# Altium schematic symbol library Schlib_Discrete.SchLib: 28 symbols
Pins are listed as number, name and electrical type; pins without a type are passive.

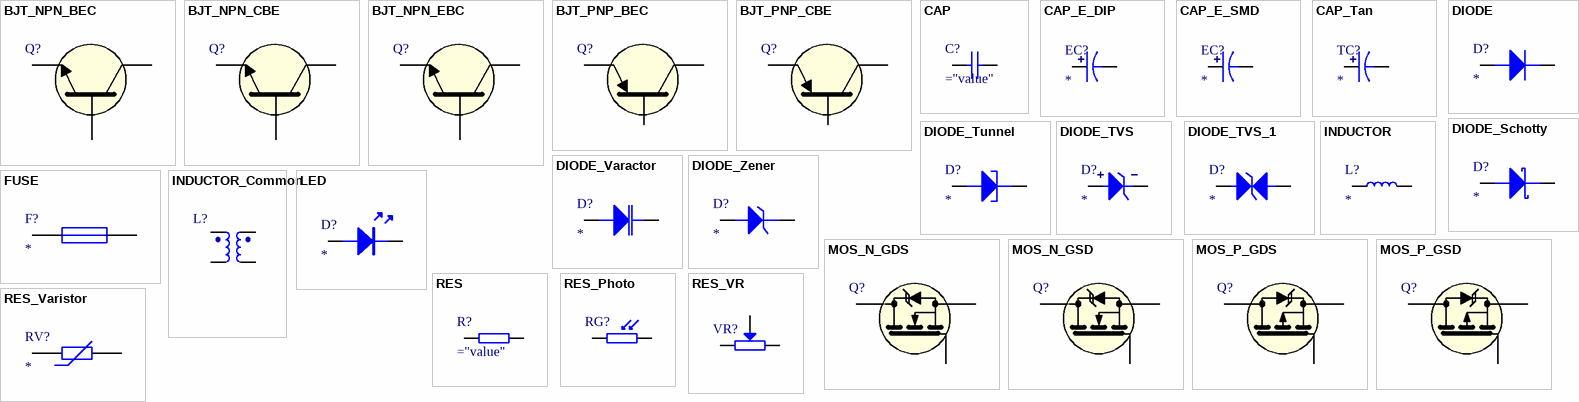
[diagram p0: symbols BJT_NPN_BEC to RES_VR]

## BJT_NPN_BEC
designator Q?
Bipolar Junction Transistor NPN
footprint SOT-23-3
pins: 1 B, 2 E, 3 C

## BJT_NPN_CBE
designator Q?
Bipolar Junction Transistor NPN
footprint SOT-23-3
pins: 1 C, 2 B, 3 E

## BJT_NPN_EBC
designator Q?
Bipolar Junction Transistor NPN
footprint SOT-23-3
pins: 1 E, 2 B, 3 C

## BJT_PNP_BEC
designator Q?
Bipolar Junction Transistor PNP
footprint SOT-23-3
pins: 1 E, 2 B, 3 C

## BJT_PNP_CBE
designator Q?
Bipolar Junction Transistor PNP
footprint SOT-23-3
pins: 1 C, 2 B, 3 E

## CAP
designator C?
Non-polar capacitor
footprint C0603
pins: 1, 2

## CAP_E_DIP
designator EC?
Through-hole Electrolytic Capacitor
pins: 1, 2

## CAP_E_SMD
designator EC?
Surface-mount Electrolytic Capacitor
pins: 1, 2

## CAP_Tan
designator TC?
Tantalum Capacitor
pins: 1, 2

## DIODE
designator D?
DIODE
footprint DO-41G
footprint DO-41GV
footprint DO-41V
footprint DO-201AD
footprint DO-201ADV
footprint LL34 (玻封二极管)
footprint SMA/DO-214AC (塑封二极管)
footprint SMB/DO-214AA (塑封二极管)
footprint SOD-123 (塑封二极管)
footprint SOD-323 (塑封二极管)
footprint SOD-523 (塑封二极管)
pins: 1 A, 2 K

## DIODE_Schotty
designator D?
SCHOTTKY DIODE
footprint SOD-123 (塑封二极管)
footprint SOD-323 (塑封二极管)
footprint SOD-523 (塑封二极管)
pins: 1 A, 2 K

## DIODE_Tunnel
designator D?
TUNNEL DIODE
pins: 1 A, 2 K

## DIODE_TVS
designator D?
Uni-Directional Unit TVS
pins: 1 A, 2 K

## DIODE_TVS_1
designator D?
Bi-Directional Unit TVS
pins: 1 A, 2 K

## DIODE_Varactor
designator D?
VARACTOR DIODE
pins: 1 A, 2 K

## DIODE_Zener
designator D?
ZENER DIODE
pins: 1 A, 2 K

## FUSE
designator F?
FUSE,FUSE-LINK
pins: 1, 2

## INDUCTOR
designator L?
INDUCTOR
footprint CD32 (3.5*3*2mm（长宽高）)
footprint CD42 (4.5*4*2mm（长宽高）)
footprint CD43 (4.5*4*3.2mm（长宽高）)
footprint CD52 (5.8*5.2*3mm（长宽高）)
footprint CD53 (5.8*5.2*3.5mm（长宽高）)
footprint CD54 (5.8*5.2*4.5mm（长宽高）)
footprint CD75 (7.8*7*5mm（长宽高）)
footprint CD104 (10*9*4mm（长宽高）)
footprint CD105 (10*9*5.4mm（长宽高）)
footprint CD106 (10*9*6.5mm（长宽高）)
footprint CDRH73 (7.3*7.3*3.4mm（长宽高）)
footprint CDRH74 (7.3*7.3*4.5mm（长宽高）)
footprint CDRH124 (12*12*4.5mm（长宽高）)
footprint CDRH125 (12*12*5mm（长宽高）)
footprint CDRH127 (12*12*8mm（长宽高）)
footprint CDRH129 (12*12*9.5mm（长宽高）)
footprint L0630
footprint NR3015 (3mm*3mm*1.5mm(长*宽*高）)
footprint PK0406 (2*5*8mm(脚距，直径，高）)
footprint PK0608 (2.5*7*10mm(脚距，直径，高）)
footprint PK0810 (5*9*12mm(脚距，直径，高）)
footprint PK0912 (6*10*14mm(脚距，直径，高）)
footprint PK1012 (6*11*14mm(脚距，直径，高）)
footprint PK1415 (7.5*15*17mm(脚距，直径，高）)
footprint PK1618 (12.5*17*20mm(脚距，直径，高）)
footprint PK1818 (15*19*20mm(脚距，直径，高）)
footprint L0402
footprint L0603
footprint L0630
footprint L0805
footprint L1210
footprint L1806
footprint L1812
pins: 1, 2

## INDUCTOR_Common
designator L?
Common Mode Choke
pins: 1, 1 2, 2 4, 2 3

## LED
designator D?
Light Emitting Diode
footprint LED-0603B
footprint LED-0603G
footprint LED-0805R
footprint LED-0603W
footprint LED-0603Y
footprint LED-0805B
footprint LED-0805G
footprint LED-0805R
footprint LED-0603W
footprint LED-0805Y
footprint LED-1206B
footprint LED-1206G
footprint LED-1206R
footprint LED-1206W
footprint LED-1206Y
pins: 1 A, 2 K

## MOS_N_GDS
designator Q?
Metal-Oxide-Semiconductor Field-Effect Transistor N
pins: 1 G, 2 D, 3 S

## MOS_N_GSD
designator Q?
Metal-Oxide-Semiconductor Field-Effect Transistor N
pins: 1 G, 2 S, 3 D

## MOS_P_GDS
designator Q?
Metal-Oxide-Semiconductor Field-Effect Transistor N
pins: 1 G, 2 D, 3 S

## MOS_P_GSD
designator Q?
Metal-Oxide-Semiconductor Field-Effect Transistor N
pins: 1 G, 2 S, 3 D

## RES
designator R?
Resistor
footprint R0603 (1/10W (0.1W))
pins: 1, 2

## RES_Photo
designator RG?
Photoresistor/Light-dependent resistor
pins: 1, 2

## RES_Varistor
designator RV?
Voltage Dependent Resistor
pins: 1, 2

## RES_VR
designator VR?
Variable Resistor
pins: 1, 2, 2